# Altium integrated library Components - 12.08.25 - 13.16.IntLib: 1 symbol
Pins are listed as number, name and electrical type; pins without a type are passive.

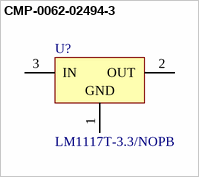
[diagram p0: symbol CMP-0062-02494-3]

## CMP-0062-02494-3
designator U?, comment LM1117T-3.3/NOPB
800mA Low-Dropout Linear Regulator, 3-pin TO-220, Pb-Free; Manufacturer: Texas Instruments; PackageTopMarking: NSUZXYTTE#*LM1117T*3.3; PowerWise: N; CompType: LDO IC; RoHS: Y; ComponentLink1URL: http://www.ti.com/general/docs/lit/getliterature.tsp?genericPartNumber=LM1117-N&fileType=pdf; PackageReference: NDE0003A; PinCount: 3; ComponentLink1Description: Datasheet URL; PackageDescription: TO-220, Molded, 3 Lead, Straight
footprint NDE0003A (FM, 3-Leads, Body 10.7x4.7mm, Pitch 2.54mm)
pins: 1 GND (power), 2 OUT (power), 3 IN (power)